# EAGLE library part USB_A_2H (library gator)
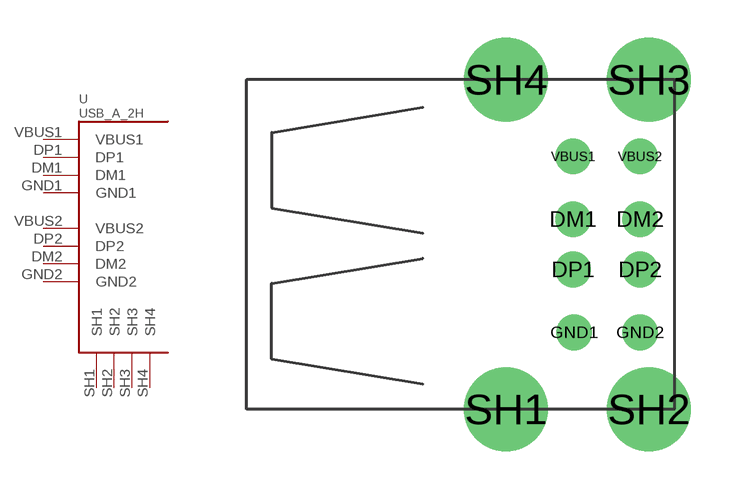
[diagram p4: symbol with the pads of USB-A-2H; footprint USB-A-2H]

Designator prefix -

## USB_A_2H  [USB-A-2H]
DM1  DM1
DM2  DM2
DP1  DP1
DP2  DP2
GND1  GND1
GND2  GND2
SH1  SH1
SH2  SH2
SH3  SH3
SH4  SH4
VBUS1  VBUS1
VBUS2  VBUS2

## Footprint USB-A-2H (pad centres in mm)
drill 0.914: DM1 -4.027,1.05; DM2 -1.37,1.05; DP1 -4.027,-0.95; DP2 -1.37,-0.95; GND1 -3.99,-3.45; GND2 -1.37,-3.45; VBUS1 -4.027,3.55; VBUS2 -1.37,3.55
drill 2.311: SH1 -6.7,-6.5; SH2 -1.02,-6.5; SH3 -1.02,6.6; SH4 -6.7,6.6